# EAGLE library part 71S5- (library inductor-neosid)
FILTER adjustable filter transformer with tab, type S
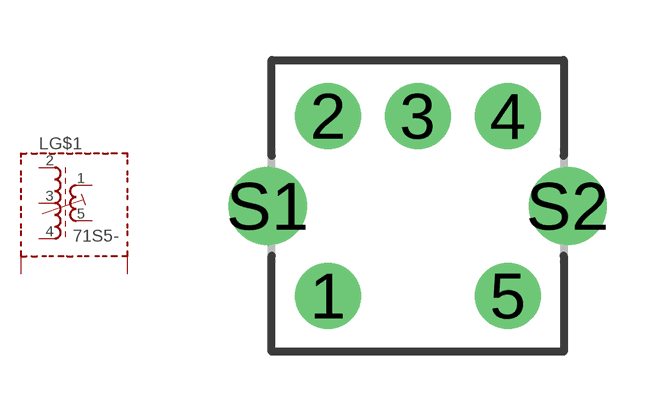
[diagram p12: symbol with the pads of 71S; footprint 71S]

Designator prefix L; gates G$1=SMF51-4 G$2=SHIELD3

## 71S5-24153 (OC_FARNELL: unknown; OC_NEWARK: unknown)  [71S]
1  G$1:A2  pas
2  G$1:A1  pas
3  G$1:Z  pas
4  G$1:E1  pas
5  G$1:E2  pas
S1  G$2:S1  pas
S2  G$2:S2  pas

## 71S5-42513 (OC_FARNELL: unknown; OC_NEWARK: unknown)  [71S]
1  G$1:E2  pas
2  G$1:E1  pas
3  G$1:Z  pas
4  G$1:A1  pas
5  G$1:A2  pas
S1  G$2:S1  pas
S2  G$2:S2  pas

## 71S5-42153 (OC_FARNELL: unknown; OC_NEWARK: unknown)  [71S]
1  G$1:A2  pas
2  G$1:E1  pas
3  G$1:Z  pas
4  G$1:A1  pas
5  G$1:E2  pas
S1  G$2:S1  pas
S2  G$2:S2  pas

## Footprint 71S (pad centres in mm)
RF COIL ASSEMBLY 2 windings, 5 pads, grid 2.25 mm
drill 1.1 round: 1 -2.25,-2.25; 2 -2.25,2.25; 3 0,2.25; 4 2.25,2.25; 5 2.25,-2.25
drill 1.3 round: S1 -3.75,0; S2 3.75,0